# EAGLE library part CON_CARDEDGE60_1.27MM (library akita)
CARDEDEGE 60p 1.27mm
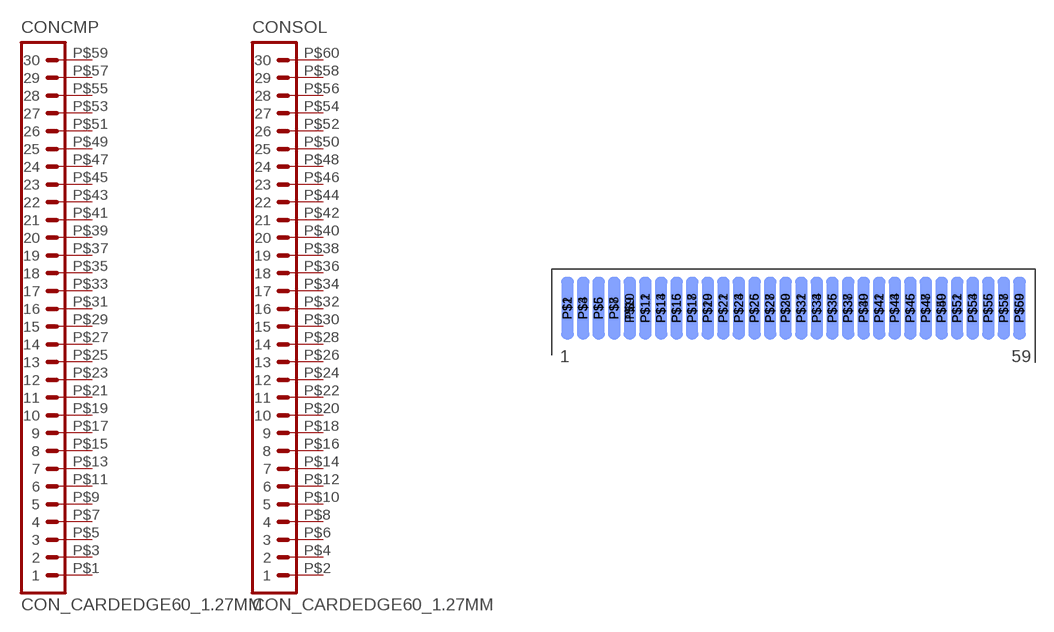
[diagram p74: symbol with the pads of CARDEDGE60_1.27MM; footprint CARDEDGE60_1.27MM]

Designator prefix CON; gates CMP=CON_PINHD30 SOL=CON_PINHD30

## CON_CARDEDGE60_1.27MM  [CARDEDGE60_1.27MM]
P$1  CMP:1  pas
P$2  SOL:1  pas
P$3  CMP:2  pas
P$4  SOL:2  pas
P$5  CMP:3  pas
P$6  SOL:3  pas
P$7  CMP:4  pas
P$8  SOL:4  pas
P$9  CMP:5  pas
P$10  SOL:5  pas
P$11  CMP:6  pas
P$12  SOL:6  pas
P$13  CMP:7  pas
P$14  SOL:7  pas
P$15  CMP:8  pas
P$16  SOL:8  pas
P$17  CMP:9  pas
P$18  SOL:9  pas
P$19  CMP:10  pas
P$20  SOL:10  pas
P$21  CMP:11  pas
P$22  SOL:11  pas
P$23  CMP:12  pas
P$24  SOL:12  pas
P$25  CMP:13  pas
P$26  SOL:13  pas
P$27  CMP:14  pas
P$28  SOL:14  pas
P$29  CMP:15  pas
P$30  SOL:15  pas
P$31  CMP:16  pas
P$32  SOL:16  pas
P$33  CMP:17  pas
P$34  SOL:17  pas
P$35  CMP:18  pas
P$36  SOL:18  pas
P$37  CMP:19  pas
P$38  SOL:19  pas
P$39  CMP:20  pas
P$40  SOL:20  pas
P$41  CMP:21  pas
P$42  SOL:21  pas
P$43  CMP:22  pas
P$44  SOL:22  pas
P$45  CMP:23  pas
P$46  SOL:23  pas
P$47  CMP:24  pas
P$48  SOL:24  pas
P$49  CMP:25  pas
P$50  SOL:25  pas
P$51  CMP:26  pas
P$52  SOL:26  pas
P$53  CMP:27  pas
P$54  SOL:27  pas
P$55  CMP:28  pas
P$56  SOL:28  pas
P$57  CMP:29  pas
P$58  SOL:29  pas
P$59  CMP:30  pas
P$60  SOL:30  pas

## Footprint CARDEDGE60_1.27MM (pad centres in mm)
smd 1.02 x 5.08: P$1 -18.415,-3.175; P$3 -17.145,-3.175; P$5 -15.875,-3.175; P$7 -14.605,-3.175; P$9 -13.335,-3.175; P$11 -12.065,-3.175; P$13 -10.795,-3.175; P$15 -9.525,-3.175; P$17 -8.255,-3.175; P$19 -6.985,-3.175; P$21 -5.715,-3.175; P$23 -4.445,-3.175; P$25 -3.175,-3.175; P$27 -1.905,-3.175; P$29 -0.635,-3.175; P$31 0.635,-3.175; P$33 1.905,-3.175; P$35 3.175,-3.175; P$37 4.445,-3.175; P$39 5.715,-3.175; P$41 6.985,-3.175; P$43 8.255,-3.175; P$45 9.525,-3.175; P$47 10.795,-3.175; P$49 12.065,-3.175; P$51 13.335,-3.175; P$53 14.605,-3.175; P$55 15.875,-3.175; P$57 17.145,-3.175; P$59 18.415,-3.175
smd 1.02 x 5.08 bottom: P$2 -18.415,-3.175; P$4 -17.145,-3.175; P$6 -15.875,-3.175; P$8 -14.605,-3.175; P$10 -13.335,-3.175; P$12 -12.065,-3.175; P$14 -10.795,-3.175; P$16 -9.525,-3.175; P$18 -8.255,-3.175; P$20 -6.985,-3.175; P$22 -5.715,-3.175; P$24 -4.445,-3.175; P$26 -3.175,-3.175; P$28 -1.905,-3.175; P$30 -0.635,-3.175; P$32 0.635,-3.175; P$34 1.905,-3.175; P$36 3.175,-3.175; P$38 4.445,-3.175; P$40 5.715,-3.175; P$42 6.985,-3.175; P$44 8.255,-3.175; P$46 9.525,-3.175; P$48 10.795,-3.175; P$50 12.065,-3.175; P$52 13.335,-3.175; P$54 14.605,-3.175; P$56 15.875,-3.175; P$58 17.145,-3.175; P$60 18.415,-3.175